# EAGLE library part 74X240 (library TinyNES_Library)
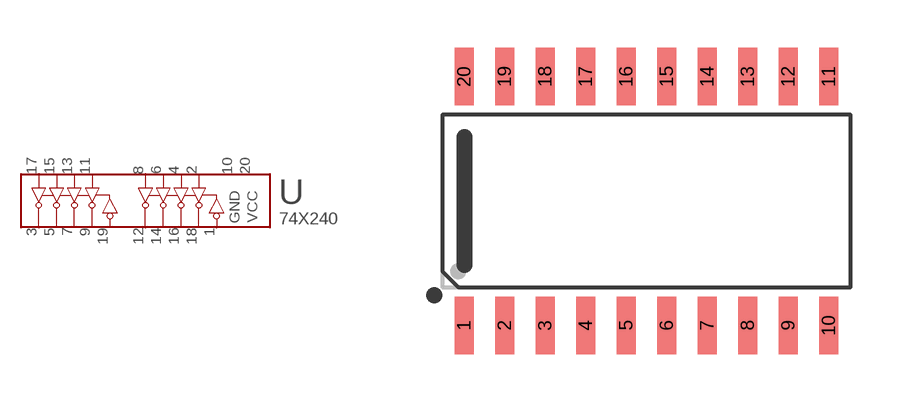
[diagram p1: symbol with the pads of SOIC-20; footprint SOIC-20]

Designator prefix U

## 74X240  [SOIC-20]
1  1!OE
2  1A1
3  2Y4
4  1A2
5  2Y3
6  1A3
7  2Y2
8  1A4
9  2Y1
10  GND
11  2A1
12  1Y4
13  2A2
14  1Y3
15  2A3
16  1Y2
17  2A4
18  1Y1
19  2!OE
20  VCC

## Footprint SOIC-20 (pad centres in mm)
smd 0.6 x 1.8: 1 -5.715,-3.9; 2 -4.445,-3.9; 3 -3.175,-3.9; 4 -1.905,-3.9; 5 -0.635,-3.9; 6 0.635,-3.9; 7 1.905,-3.9; 8 3.175,-3.9; 9 4.445,-3.9; 10 5.715,-3.9; 11 5.715,3.9; 12 4.445,3.9; 13 3.175,3.9; 14 1.905,3.9; 15 0.635,3.9; 16 -0.635,3.9; 17 -1.905,3.9; 18 -3.175,3.9; 19 -4.445,3.9; 20 -5.715,3.9